# Altium footprint library MODULE_DC2DC.PcbLib: 48 footprints (part 2 of 3)
Each footprint in its own frame and in the unit in brackets; x right, y up, seen from the top. Pads: shape width x height; smd on the part's side, far side on the other; paste and mask are expansions set on the pad; w line width, h text height; cw(c..) or ccw(c..) is an arc to the next point about the centre after c.
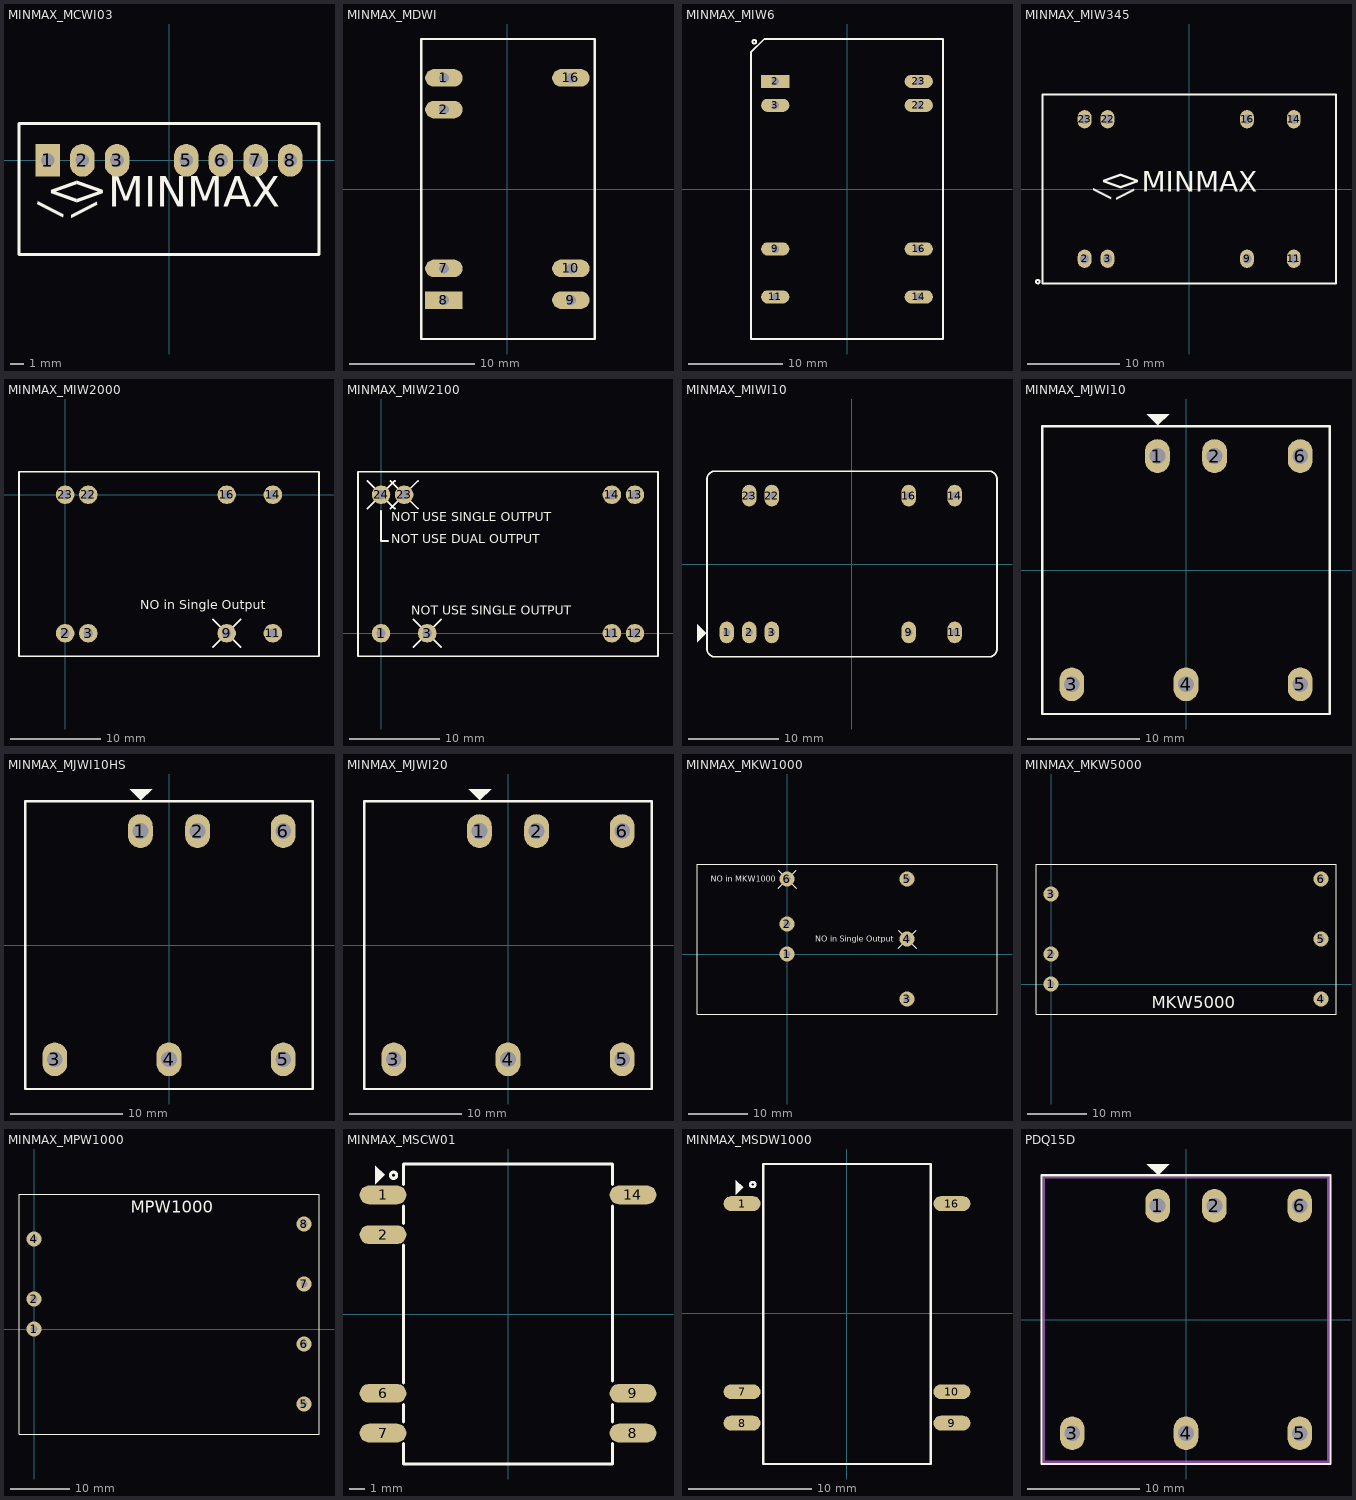
[diagram p1: the footprints below, top view; thin cyan lines are the x and y axes]

## MINMAX_MCWI03 [mm] "DC-DC Module, MINMAX MCWI03, MCWI05"
height 0.254
pads (7):
  rect 1.8x2.4 hole 1: 1(-8.89,0)
  oval 1.8x2.4 hole 1: 2(-6.35,0) 3(-3.81,0) 5(1.27,0) 6(3.81,0) 7(6.35,0) 8(8.89,0)
Top Overlay:
  lines w0.2: -11,-6.9 -11,2.7 11,2.7 11,-6.9 -11,-6.9
  text "/" at -7.357,-4.275 h3.56
  text "MINMAX" at -4.437,-4.125 h3.81
  text "<" at -8.957,-3.975 h3.81
  text ">" at -7.057,-3.975 h3.81
  text "\" at -4.707,-3.9 h3.56
3D body "MCWI05 3D Mechanical.stp": height 11.5, standoff -3.15, extent -10.9,-6.75 10.9,2.55

## MINMAX_MDWI [mm] "DC-DC Module, MINMAX MDWI03, MDWI08, MDWI10"
pads (7):
  oval 3x1.4 hole 0.8: 1(-5.08,8.89) 2(-5.08,6.35) 7(-5.08,-6.35) 9(5.08,-8.89) 10(5.08,-6.35) 16(5.08,8.89)
  rect 3x1.4 hole 0.8: 8(-5.08,-8.89)
Top Overlay:
  lines w0.2: -6.9,-12 7,-12 7,12 -6.9,12 -6.9,-12
3D body "MDWI03 3D Mechanical.stp": height 8.3, standoff -3.8, extent -6.847,-11.9 6.848,11.9

## MINMAX_MIW6 [mm] "DC-DC Module, MINMAX MIW6"
pads (8):
  rect 3x1.4 hole 0.8: 2(-7.62,11.43)
  oval 3x1.4 hole 0.8: 3(-7.62,8.89) 9(-7.62,-6.35) 11(-7.62,-11.43) 14(7.62,-11.43) 16(7.62,-6.35) 22(7.62,8.89) 23(7.62,11.43)
Top Overlay:
  circle w0.2: c-9.836,15.637 r0.2
  lines w0.2: -10.2,-15.9 10.2,-15.9 10.2,15.93 -8.77,15.93 -10.2,14.5 -10.2,-15.9
3D body "MIWI06 3D Mechanical.stp": height 10.5, standoff -4.05, extent -10.1,-15.84 10.1,15.84

## MINMAX_MIW345 [mm] "MINMAX_MIW3000 MIW4000 MIW5000"
pads (8):
  oval 1.5x2 hole 1: 2(-11.4,-7.6) 3(-8.9,-7.6) 9(6.3,-7.6) 11(11.4,-7.6) 14(11.4,7.6) 16(6.3,7.6) 22(-8.9,7.6) 23(-11.4,7.6)
Top Overlay:
  circle w0.2: c-16.5,-10.1 r0.2
  lines w0.2: -16,-10.3 -16,10.3 16,10.3 16,-10.3 -16,-10.3
  text "/" at -8.1,-1.202 h3.56
  text "MINMAX" at -5.18,-1.052 h3.81
  text "<" at -9.7,-0.902 h3.81
  text ">" at -7.8,-0.902 h3.81
  text "\" at -5.45,-0.827 h3.56
3D body "User Library-MIW4036.step": height 10.25, standoff -4, extent -15.9,-10.15 15.9,10.15

## MINMAX_MIW2000 [mil]
pads (8):
  round 80 hole 39.37: 2(0,-600) 3(100,-600) 9(700,-600) 11(900,-600) 14(900,0) 16(700,0) 22(100,0) 23(0,0)
Top Overlay:
  lines w7.87: 640,-660 760,-540 ; 640,-540 760,-660 ; -200,-700 -200,100 1100,100 1100,-700 -200,-700
  text "NO in Single Output" at 325,-495 h40

## MINMAX_MIW2100 [mil]
pads (8):
  round 80 hole 39.37: 1(0,0) 3(200,0) 11(1000,0) 12(1100,0) 13(1100,600) 14(1000,600) 23(100,600) 24(0,600)
Top Overlay:
  lines w7.87: -60,540 60,660 ; -60,660 60,540 ; 0,530 0,400 30,400 ; 40,540 160,660 ; 40,660 160,540 ; 140,-60 260,60 ; 140,60 260,-60 ; -100,-100 1200,-100 1200,700 -100,700 -100,-100
  text "NOT USE DUAL OUTPUT" at 45,390 h40
  text "NOT USE SINGLE OUTPUT" at 130,80 h40
  text "NOT USE SINGLE OUTPUT" at 45,485 h40

## MINMAX_MIWI10 [mm] "DC-DC Module, 20.3X31.8mm,"
height 10.2
pads (9):
  oval 1.6x2.4 hole 0.8: 1(-13.9,-7.6) 2(-11.4,-7.6) 3(-8.9,-7.6) 9(6.3,-7.6) 11(11.4,-7.6) 14(11.4,7.6) 16(6.3,7.6) 22(-8.9,7.6) 23(-11.4,7.6)
Top Overlay:
  region: -16.2,-7.7 -17.2,-6.7 -17.2,-8.7
  lines w0.2: -16.1,-9.4 ccw(c-15.2,-9.4) -15.2,-10.3 15.2,-10.3 ccw(c15.2,-9.4) 16.1,-9.4 16.1,9.4 ccw(c15.2,9.4) 15.2,10.3 -15.2,10.3 ccw(c-15.2,9.4) -16.1,9.4 -16.1,-9.4
3D body "MIWI10 3D Mechanical.stp": height 10.5, standoff -3.8, extent -15.925,-10.15 15.925,10.15

## MINMAX_MJWI10 [mm] "DC-DC Module, 25.4X25.4mm, =PDQ15-D"
height 1.6
pads (6):
  oval 2.2x3 hole 1.4: 1(-2.54,10.16) 2(2.54,10.16) 3(-10.16,-10.16) 4(0,-10.16) 5(10.16,-10.16) 6(10.16,10.16)
Top Overlay:
  region: -2.5,12.9 -1.5,13.9 -3.5,13.9
  lines w0.2: -12.8,-12.8 12.8,-12.8 12.8,12.8 -12.8,12.8 -12.8,-12.8
3D body "MJWI10 3D Mechanical.stp": height 10.5, standoff -5.66, extent -12.7,-12.7 12.7,12.7

## MINMAX_MJWI10HS [mm] "DC-DC Module, 25.4X25.4mm, with HeatSink"
height 1.6
pads (6):
  oval 2.2x3 hole 1.4: 1(-2.54,10.16) 2(2.54,10.16) 3(-10.16,-10.16) 4(0,-10.16) 5(10.16,-10.16) 6(10.16,10.16)
Top Overlay:
  region: -2.5,12.9 -1.5,13.9 -3.5,13.9
  lines w0.2: -12.8,-12.8 -12.8,12.8 12.8,12.8 12.8,-12.8 -12.8,-12.8
3D body "MJWI10 3D Mechanical_with Heatsink.STEP": height 17, standoff -5.66, extent -14.709,-12.7 14.709,12.7

## MINMAX_MJWI20 [mm] "DC-DC Module, 25.4X25.4mm, =PDQ15-D"
height 1.6
pads (6):
  oval 2.2x3 hole 1.4: 1(-2.54,10.16) 2(2.54,10.16) 3(-10.16,-10.16) 4(0,-10.16) 5(10.16,-10.16) 6(10.16,10.16)
Top Overlay:
  region: -2.5,12.9 -1.5,13.9 -3.5,13.9
  lines w0.2: -12.8,-12.8 12.8,-12.8 12.8,12.8 -12.8,12.8 -12.8,-12.8
3D body "MJWI20 3D Mechanical.stp": height 10.5, standoff -5.66, extent -12.7,-12.7 12.7,12.7

## MINMAX_MKW1000 [mm]
pads (6):
  round 2.54 hole 1.2: 1(0,0) 2(0,5.08) 3(20.32,-7.62) 4(20.32,2.54) 5(20.32,12.7) 6(0,12.7)
Top Overlay:
  lines w0.2: -1.524,11.176 1.524,14.224 ; -1.524,14.224 1.524,11.176 ; 18.796,1.016 21.844,4.064 ; 18.796,4.064 21.844,1.016 ; -15.24,-10.16 35.56,-10.16 35.56,15.24 -15.24,15.24 -15.24,-10.16
  text "NO in MKW1000" at -12.9,12.2 h1.02
  text "NO in Single Output" at 4.8,2.1 h1.02

## MINMAX_MKW5000 [mm]
pads (6):
  round 2.54 hole 1.2: 1(0,0) 2(0,5.08) 3(0,15.24) 4(45.72,-2.54) 5(45.72,7.62) 6(45.72,17.78)
Top Overlay:
  lines w0.2: -2.54,-5.08 48.26,-5.08 48.26,20.32 -2.54,20.32 -2.54,-5.08
  text "MKW5000" at 17.1,-4.1 h2.03

## MINMAX_MPW1000 [mm]
pads (7):
  round 2.54 hole 1.2: 1(0,0) 2(0,5.08) 4(0,15.24) 5(45.72,-12.7) 6(45.72,-2.54) 7(45.72,7.62) 8(45.72,17.78)
Top Overlay:
  lines w0.2: -2.54,-17.78 -2.54,22.86 48.26,22.86 48.26,-17.78 -2.54,-17.78
  text "MPW1000" at 16.4,19.7 h2.03

## MINMAX_MSCW01 [mm] "DC-DC Module, MINMAX MSCW01"
pads (7):
  oval 3x1.2 smd: 1(-8,7.62) 2(-8,5.08) 6(-8,-5.08) 7(-8,-7.62) 8(8,-7.62) 9(8,-5.08) 14(8,7.62)
Top Overlay:
  circle w0.2: c-7.328,8.88 r0.2
  region: -8.5,8.3 -8.5,9.5 -7.9,8.9
  lines w0.2: -6.7,-6.9 -6.7,-5.8 ; -6.7,-4.4 -6.7,4.4 ; -6.7,5.8 -6.7,6.9 ; -6.691,-8.3 -6.691,-9.6 6.7,-9.6 6.7,-8.3 ; -6.691,8.3 -6.691,9.6 6.7,9.6 6.7,8.3 ; 6.7,-6.9 6.7,-5.8 ; 6.7,-4.3 6.7,6.9
3D body "MSCW01 3D Mechanical.stp": height 8.85, standoff 0, extent -8.517,-9.5 8.683,9.5

## MINMAX_MSDW1000 [mm] "DC-DC Module, MINMAX MSDW1000"
height 5.08
pads (6):
  oval 3x1.2 smd mask+0: 1(-8.5,8.89) 7(-8.5,-6.35) 8(-8.5,-8.89) 9(8.5,-8.89) 10(8.5,-6.35) 16(8.5,8.89)
Top Overlay:
  circle w0.2: c-7.636,10.437 r0.2
  region: -9,9.6 -9,10.8 -8.4,10.2
  lines w0.2: -6.8,-12.2 -6.8,12.1 6.8,12.1 6.8,-12.2 -6.8,-12.2
3D body "MSDW1000 3D Mechanical.stp": height 8.45, standoff 0, extent -8.959,-12.075 9.041,12.075

## PDQ15D [mm] "DC-DC Module, 25.4X25.4mm, =MJWI10"
height 0.6
pads (6):
  oval 2.2x3 hole 1.4: 1(-2.54,10.16) 2(2.54,10.16) 3(-10.16,-10.16) 4(0,-10.16) 5(10.16,-10.16) 6(10.16,10.16)
Top Overlay:
  region: -2.5,12.9 -1.5,13.9 -3.5,13.9
  lines w0.2: -12.9,-12.9 -12.9,12.9 12.9,12.9 12.9,-12.9 -12.9,-12.9
Mechanical 13:
  lines w0.2: -12.7,-12.7 12.7,-12.7 12.7,12.7 -12.7,12.7 -12.7,-12.7
3D body: height 10.16, standoff 0, extent -12.7,-12.7 12.7,12.7